# Altium schematic symbol library LiOnChargerShield.SchLib: 3 symbols
Pins are listed as number, name and electrical type; pins without a type are passive.

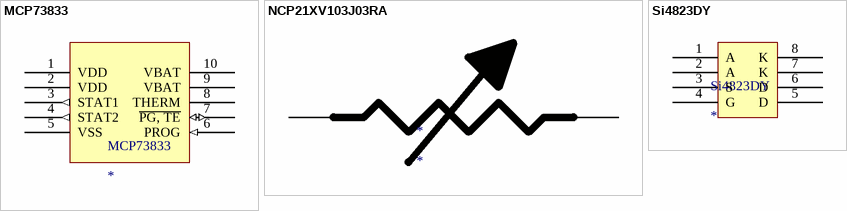
[diagram p0: symbols MCP73833 to Si4823DY]

## MCP73833
designator MCP73833
Supplier 1: Digi-Key; Supplier Part Number 1: MCP73833T-AMI/UNCT-ND
footprint MCP73833/4 (Stand-Alone Linear Li-Ion / Li-Polymer Charge  Management Controller)
pins: 1 VDD (power), 2 VDD (power), 3 STAT1 (out), 4 STAT2 (out), 5 VSS (power), 6 PROG (in), 7 ~{PG, TE} (io), 8 THERM, 9 VBAT (power), 10 VBAT (power)

## NCP21XV103J03RA
designator *
Supplier 1: Digi-Key; Supplier Part Number 1: 490-2456-1-ND
footprint NCP21XV103J03RA (NTC Thermistor 10K, beta = 3900,  0805 (2012) Size)
pins: 1, 2

## Si4823DY
designator Si4823DY
Supplier 1: Mouser; Supplier Part Number 1: 781-SI4823DY-T1-GE3
footprint Si4823DY (P-Channel 20 V (D-S) MOSFET with Schottky Diode)
pins: 1 A, 2 A, 3 S, 4 G, 5 D, 6 D, 7 K, 8 K